# Altium footprint library ffc_fpc.PcbLib: 8 footprints
Each footprint in its own frame and in the unit in brackets; x right, y up, seen from the top. Pads: shape width x height; smd on the part's side, far side on the other; paste and mask are expansions set on the pad; w line width, h text height; cw(c..) or ccw(c..) is an arc to the next point about the centre after c.
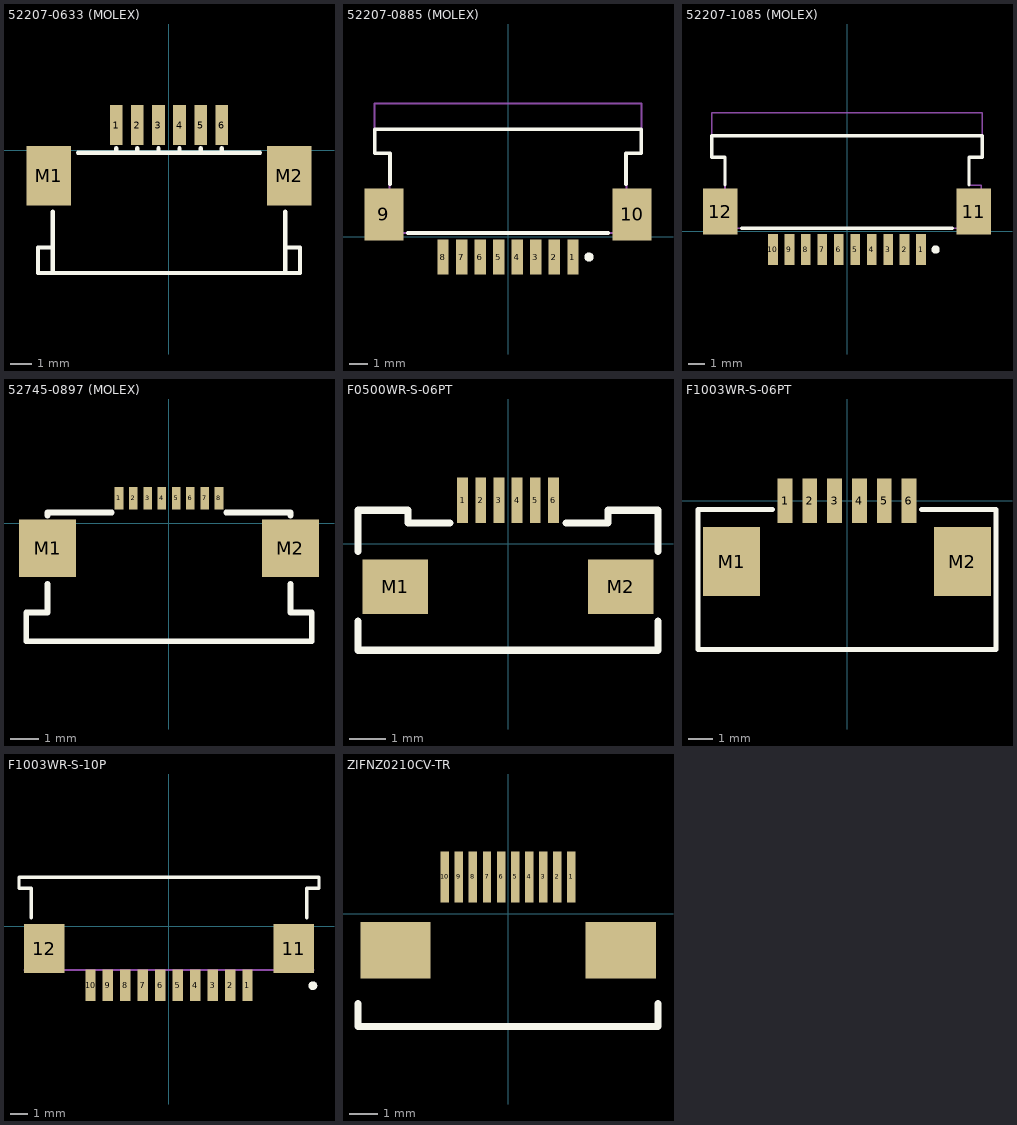
[diagram p0: the footprints below, top view; thin cyan lines are the x and y axes]

## 52207-0633 (MOLEX) [mm] "FFC raster 1mm (0522070633)"
pads (8):
  rect 0.6x1.9 smd: 1(-2.5,1.2) 2(-1.5,1.2) 3(-0.5,1.2) 4(0.5,1.2) 5(1.5,1.2) 6(2.5,1.2)
  rect 2.1x2.8 smd: M1(-5.7,-1.2) M2(5.7,-1.2)
Top Overlay:
  lines w0.2: -5.5,-4.6 -6.2,-4.6 -6.2,-5.8 -5.5,-5.8 ; -5.5,-2.9 -5.5,-5.8 ; -4.305,-0.105 -3,-0.105 3,-0.105 4.305,-0.105 ; -2.5,-0.105 -2.5,0.1 ; -1.5,-0.105 -1.5,0.1 ; -0.5,-0.105 -0.5,0.1 ; 0.5,-0.105 0.5,0.1 ; 1.5,-0.105 1.5,0.1 ; 2.5,-0.105 2.5,0.1 ; 5.5,-4.6 6.2,-4.6 6.2,-5.8 5.5,-5.8 ; 5.5,-2.9 5.5,-5.8 ; -5.5,-5.8 5.5,-5.8
3D body "522070633.stp": height 2.7, standoff 0, extent -6.15,-5.8 6.15,1.8

## 52207-0885 (MOLEX) [mm] "Molex 52207-0885 (Connector; FH12 Series; 8 Position; 1.0mm Spaced Bottom Eccentric Contact)"
height 2.65
pads (10):
  rect 0.6x1.9 smd: 1(3.5,-1.1) 2(2.5,-1.1) 3(1.5,-1.1) 4(0.5,-1.1) 5(-0.5,-1.1) 6(-1.5,-1.1) 7(-2.5,-1.1) 8(-3.5,-1.1)
  rect 2.1x2.8 smd: 9(-6.7,1.2) 10(6.7,1.2)
Top Overlay:
  circle w0.25: c4.375,-1.1 r0.125
  lines w0.2: -6.375,2.825 -6.375,4.5 -7.2,4.5 -7.2,5.8 7.2,5.8 7.2,4.5 6.375,4.5 6.375,2.825 ; -5.4,0.2 5.4,0.2
Mechanical 13:
  lines w0.1: -7.2,5.8 6.388,5.8 7.2,5.8 ; -7.2,5.8 -7.2,4.5 -6.4,4.5 -6.4,2.513 -7.15,2.513 -7.15,0.2 7.15,0.2 7.15,2.513 6.4,2.513 6.4,4.5 7.2,4.5 7.2,5.8 ; -7.2,5.8 -7.2,7.2 -7.15,7.2 7.15,7.2 7.2,7.2 7.2,5.8
3D body "5543.stp": height 2.65, standoff -0.05, extent -7.15,-1.738 7.15,7.162

## 52207-1085 (MOLEX) [mm] "Molex 52207-1085 (1.00mm Pitch FFC/FPC Connector, SMT, Right Angle, ZIF, Top Contact Style Receptacle, 10 Circuits)"
height 2.65
pads (12):
  rect 0.6x1.9 smd: 1(4.5,-1.1) 2(3.5,-1.1) 3(2.5,-1.1) 4(1.5,-1.1) 5(0.5,-1.1) 6(-0.5,-1.1) 7(-1.5,-1.1) 8(-2.5,-1.1) 9(-3.5,-1.1) 10(-4.5,-1.1)
  rect 2.1x2.8 smd: 11(7.7,1.2) 12(-7.7,1.2)
Top Overlay:
  circle w0.25: c5.375,-1.1 r0.125
  lines w0.2: -7.4,2.825 -7.4,4.5 -8.2,4.5 -8.2,5.8 8.2,5.8 ; -6.4,0.2 6.4,0.2 ; 7.4,2.825 7.4,4.5 8.2,4.5 ; 8.2,4.5 8.2,5.8 ; 8.2,4.5 8.2,5.8
Mechanical 13:
  lines w0.1: -8.2,5.8 6.388,5.8 7.2,5.8 8.2,5.8 ; 7.2,7.2 7.15,7.2 ; 7.15,7.2 -7.15,7.2 -7.2,7.2 -8.2,7.2 -8.2,4.5 -7.4,4.5 -7.4,2.8 -7.4,2.513 -8.15,2.513 -8.15,0.2 -7.15,0.2 7.15,0.2 8.15,0.2 8.15,2.513 8.15,2.8 7.4,2.8 7.4,4.5 8.2,4.5 8.2,7.2 7.15,7.2
3D body "5546.stp": height 2.65, standoff -0.05, extent -8.15,-1.775 8.15,7.125

## 52745-0897 (MOLEX) [mm]
pads (10):
  rect 0.3x0.8 smd: 1(-1.75,0.875) 2(-1.25,0.875) 3(-0.75,0.875) 4(-0.25,0.875) 5(0.25,0.875) 6(0.75,0.875) 7(1.25,0.875) 8(1.75,0.875)
  rect 2x2 smd: M1(-4.25,-0.875) M2(4.25,-0.875)
Top Overlay:
  lines w0.2: -4.25,-2.125 -4.25,-3.125 -5,-3.125 -5,-4.125 -4.25,-4.125 4.25,-4.125 5,-4.125 5,-3.125 4.25,-3.125 4.25,-2.125 ; -4.25,0.275 -4.25,0.375 -2,0.375 ; 2,0.375 4.25,0.375 4.25,0.275
3D body "527450897.stp": height 2, standoff 0, extent -5.05,-5.325 5.05,1.075

## F0500WR-S-06PT [mm]
pads (8):
  rect 0.3x1.25 smd: 1(-1.25,1.188) 2(-0.75,1.188) 3(-0.25,1.188) 4(0.25,1.188) 5(0.75,1.188) 6(1.25,1.188)
  rect 1.8x1.5 smd: M1(-3.1,-1.187) M2(3.1,-1.187)
Top Overlay:
  lines w0.2: -4.125,-2.137 -4.125,-2.937 4.125,-2.937 4.125,-2.137 ; -4.125,-0.212 -4.125,0.913 -2.75,0.913 -2.75,0.563 -1.6,0.563 ; 1.6,0.563 2.75,0.563 2.75,0.913 4.125,0.913 4.125,-0.212
3D body: height 2, standoff 0, extent -2.7,-2 2.7,0.6
3D body: height 2, standoff 1.6, extent -1.7,-2.9 1.6,-2
3D body: height 1.25, standoff 0, extent -1.7,-2.9 1.6,-2
3D body: height 2, standoff 0, extent -4.1,-2.9 -1.7,-2
3D body: height 2, standoff 0, extent 1.6,-2.9 4.1,-2
3D body: height 2, standoff 0, extent -4.1,-2 -2.7,0.9
3D body: height 2, standoff 0, extent 2.7,-2 4.1,0.9
3D body: height 0.4, standoff 0, extent -1.35,0.6 -1.15,1.4
3D body: height 0.4, standoff 0, extent -0.85,0.6 -0.65,1.4
3D body: height 0.4, standoff 0, extent -0.35,0.6 -0.15,1.4
3D body: height 0.4, standoff 0, extent 0.15,0.6 0.35,1.4
3D body: height 0.4, standoff 0, extent 0.65,0.6 0.85,1.4
3D body: height 0.4, standoff 0, extent 1.15,0.6 1.35,1.4

## F1003WR-S-06PT [mm] "FFC raster 1mm (F0103WR-S-06PT)"
pads (8):
  rect 0.6x1.8 smd: 1(-2.5,0) 2(-1.5,0) 3(-0.5,0) 4(0.5,0) 5(1.5,0) 6(2.5,0)
  rect 2.3x2.8 smd: M1(-4.648,-2.45) M2(4.648,-2.45)
Top Overlay:
  lines w0.2: -3,-0.35 -6,-0.35 -6,-1.65 -6,-6 2.25,-6 6,-6 6,-0.35 3,-0.35
3D body "71156.stp": height 2.7, standoff 0, extent -5.9,-6.1 5.9,0.4

## F1003WR-S-10P [mm] "Joint Tech F1003WR-S-10PT/10PB  (Horizontal, 10 pin, 1.00mm Pitch FFC/FPC Connector)"
height 2.65
pads (12):
  rect 0.6x1.8 smd: 1(4.5,-3.375) 2(3.5,-3.375) 3(2.5,-3.375) 4(1.5,-3.375) 5(0.5,-3.375) 6(-0.5,-3.375) 7(-1.5,-3.375) 8(-2.5,-3.375) 9(-3.5,-3.375) 10(-4.5,-3.375)
  rect 2.3x2.8 smd: 11(7.15,-1.275) 12(-7.15,-1.275)
Top Overlay:
  circle w0.25: c8.25,-3.4 r0.125
  lines w0.2: -7.9,0.5 -7.9,2.175 -8.6,2.175 -8.6,2.825 8.6,2.825 8.6,2.175 7.9,2.175 7.9,0.5
Mechanical 13:
  lines w0.1: -8.6,2.825 -8.6,2.175 -8.3,2.175 ; -8.575,2.825 8.6,2.825 ; -8.3,-2.5 8.3,-2.5 ; -7.9,0.5 -7.9,2.175 ; 7.9,0.525 7.9,2.175 ; 8.3,2.175 8.6,2.175
3D body: height 2.6, standoff 0, extent -8.55,2.175 8.6,2.825
3D body: height 2.6, standoff 0, extent -7.9,-2.45 7.9,2.175

## ZIFNZ0210CV-TR [mm] "ZIFNZ0210CV-TR"
height 1.2
pads (12):
  rect 0.3x1.8 smd mask+0.05: 1(2.25,1.3) 2(1.75,1.3) 3(1.25,1.3) 4(0.75,1.3) 5(0.25,1.3) 6(-0.25,1.3) 7(-0.75,1.3) 8(-1.25,1.3) 9(-1.75,1.3) 10(-2.25,1.3)
  rect 2.5x2 smd: ""(-4,-1.3) ""(4,-1.3)
Top Overlay:
  lines w0.254: -5.335,-3.205 -5.335,-4.008 5.327,-4.008 5.327,-3.205